# EAGLE library part ACTGLOBAL-HCS-BASIC_ANALOG (library act-global-nolan)
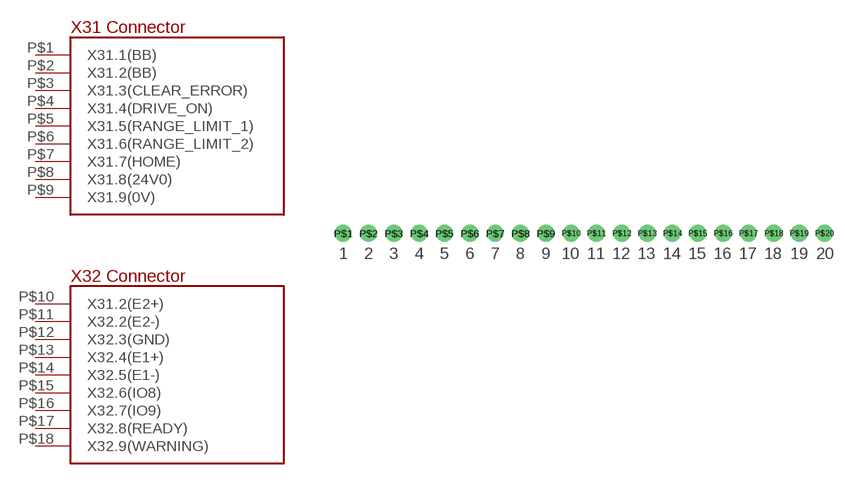
[diagram p55: symbol with the pads of PINS_20_3MM81; footprint PINS_20_3MM81]

Designator prefix -; gates G$1=ACT-GLOBAL-HCS-X31 G$2=ACT-GLOBAL-HCS-X32

## ACTGLOBAL-HCS-BASIC_ANALOG  [PINS_20_3MM81]
P$1  G$1:X31.1(BB)
P$2  G$1:X31.2(BB)
P$3  G$1:X31.3(CLEAR_ERROR)
P$4  G$1:X31.4(DRIVE_ON)
P$5  G$1:X31.5(RANGE_LIMIT_1)
P$6  G$1:X31.6(RANGE_LIMIT_2)
P$7  G$1:X31.7(HOME)
P$8  G$1:X31.8(24V0)
P$9  G$1:X31.9(0V)
P$10  G$2:X31.2(E2+)
P$11  G$2:X32.2(E2-)
P$12  G$2:X32.3(GND)
P$13  G$2:X32.4(E1+)
P$14  G$2:X32.5(E1-)
P$15  G$2:X32.6(IO8)
P$16  G$2:X32.7(IO9)
P$17  G$2:X32.8(READY)
P$18  G$2:X32.9(WARNING)

## Footprint PINS_20_3MM81 (pad centres in mm)
drill 1.3 pad 2.54: P$1 -36.2,0; P$2 -32.39,0; P$3 -28.58,0; P$4 -24.77,0; P$5 -20.96,0; P$6 -17.15,0; P$7 -13.34,0; P$8 -9.53,0; P$9 -5.72,0; P$10 -1.91,0; P$11 1.9,0; P$12 5.71,0; P$13 9.52,0; P$14 13.33,0; P$15 17.14,0; P$16 20.95,0; P$17 24.76,0; P$18 28.57,0; P$19 32.38,0; P$20 36.19,0